# EAGLE library part ATTINY2313 (library pepelac)
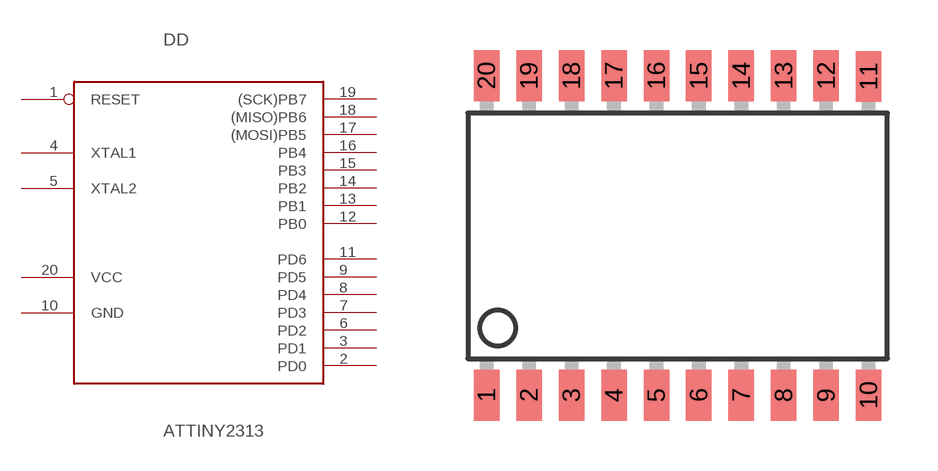
[diagram p14: symbol with the pads of SO-20LD; footprint SO-20LD]

Designator prefix DD

## ATTINY2313  [SO-20LD]
1  RESET  nc
2  PD0
3  PD1
4  XTAL1
5  XTAL2
6  PD2
7  PD3
8  PD4
9  PD5
10  GND  pwr
11  PD6
12  PB0
13  PB1
14  PB2
15  PB3
16  PB4
17  (MOSI)PB5
18  (MISO)PB6
19  (SCK)PB7
20  VCC  pwr

## Footprint SO-20LD (pad centres in mm)
Small Outline Package
smd 0.762 x 1.524: 1 -5.715,-4.775; 2 -4.445,-4.775; 3 -3.175,-4.775; 4 -1.905,-4.775; 5 -0.635,-4.775; 6 0.635,-4.775; 7 1.905,-4.775; 8 3.175,-4.775; 9 4.445,-4.775; 10 5.715,-4.775; 11 5.715,4.75; 12 4.445,4.775; 13 3.175,4.775; 14 1.905,4.775; 15 0.635,4.775; 16 -0.635,4.775; 17 -1.905,4.775; 18 -3.175,4.775; 19 -4.445,4.775; 20 -5.715,4.775